# EAGLE library part SRA-1 (library rf-jqi)
Frequency Mixer Level 7 (LO Power + 7 dBm) Source: minicircuits.com .. SRA-1+.pdf
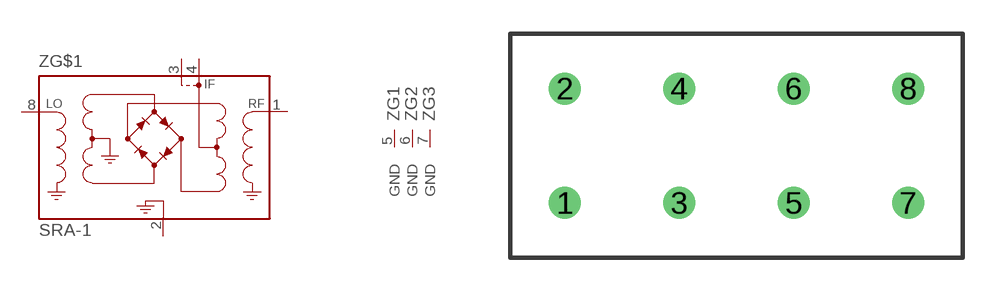
[diagram p4: symbol with the pads of A01; footprint A01]

Designator prefix Z; gates G$1=MIXER G1=GROUND G2=GROUND G3=GROUND

## SRA-1 (OC_FARNELL: unknown; OC_NEWARK: unknown)  [A01]
1  G$1:R  pas
2  G$1:CASEGROUND  pas
3  G$1:IF  pas
4  G$1:IF  pas
5  G1:GND  pwr
6  G2:GND  pwr
7  G3:GND  pwr
8  G$1:L  pas

## Footprint A01 (pad centres in mm)
CASE STYLE A01 Source: minicircuits.com .. PBP-10.7+.pdf
drill 0.9 pad 1.422: 1 -7.62,-2.54; 2 -7.62,2.54; 3 -2.54,-2.54; 4 -2.54,2.54; 5 2.54,-2.54; 6 2.54,2.54; 7 7.62,-2.54; 8 7.62,2.54